# Altium schematic symbol library SSQ-115-04-T-S.SchLib: 1 symbol
Pins are listed as number, name and electrical type; pins without a type are passive.

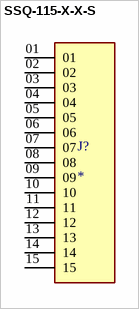
[diagram p0: symbol SSQ-115-X-X-S]

## SSQ-115-X-X-S
designator J?
MF: {'manufacturer': u'Samtec'}; MP: SSQ-115-X-X-S; Price: None; Value: *; Package: None; Availability: Unavailable
footprint SAMTEC_SSQ-115-X-X-S
pins: 01, 02, 03, 04, 05, 06, 07, 08, 09, 10, 11, 12, 13, 14, 15